# Altium integrated library Kondensator_DIP.IntLib: 1521 symbols (part 5 of 5)
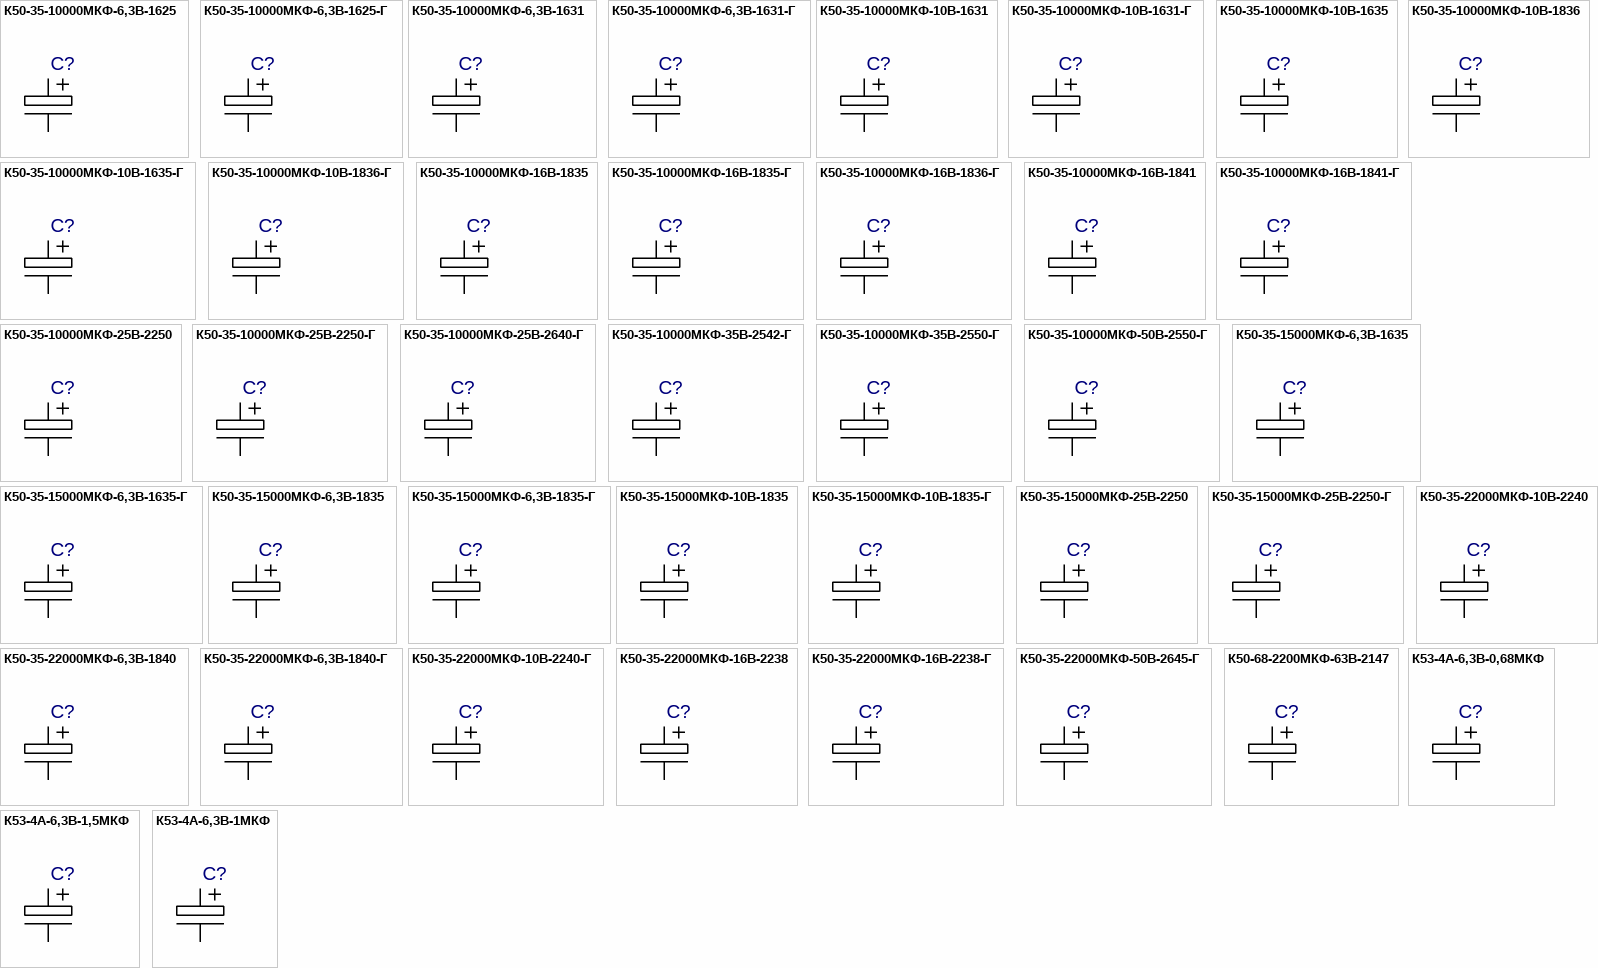
[diagram p42: symbols К50-35-10000МКФ-6,3В-1625 to К53-4А-6,3В-1МКФ]

## К50-35-10000МКФ-25В-2640-Г
designator C?  (value not drawn)
Value: *
footprint К50-35-26XX-Г_K5035-1R
footprint К50-35-26XX-Г_K5035-1R1
footprint К50-35-26XX-Г_Primary
pins: 1, 2

## К50-35-10000МКФ-35В-2542-Г
designator C?  (value not drawn)
Value: *
footprint К50-35-25XX-Г_K5035-1R
footprint К50-35-25XX-Г_K5035-1R1
footprint К50-35-25XX-Г_Primary
pins: 1, 2

## К50-35-10000МКФ-35В-2550-Г
designator C?  (value not drawn)
Value: *
footprint К50-35-25XX-Г_K5035-1R
footprint К50-35-25XX-Г_K5035-1R1
footprint К50-35-25XX-Г_Primary
pins: 1, 2

## К50-35-10000МКФ-50В-2550-Г
designator C?  (value not drawn)
Value: *
footprint К50-35-25XX-Г_K5035-1R
footprint К50-35-25XX-Г_K5035-1R1
footprint К50-35-25XX-Г_Primary
pins: 1, 2

## К50-35-15000МКФ-6,3В-1635
designator C?  (value not drawn)
Value: *
footprint К50-35-1625_K5035-1R
footprint К50-35-1625_K5035-1R1
footprint К50-35-1625_Primary
pins: 1, 2

## К50-35-15000МКФ-6,3В-1635-Г
designator C?  (value not drawn)
Value: *
footprint К50-35-16XX-Г_K5035-1R
footprint К50-35-16XX-Г_K5035-1R1
footprint К50-35-16XX-Г_Primary
pins: 1, 2

## К50-35-15000МКФ-6,3В-1835
designator C?  (value not drawn)
Value: *
footprint К50-35-1835_K5035-1R
footprint К50-35-1835_K5035-1R1
footprint К50-35-1835_Primary
pins: 1, 2

## К50-35-15000МКФ-6,3В-1835-Г
designator C?  (value not drawn)
Value: *
footprint К50-35-18XX-Г_K5035-1R
footprint К50-35-18XX-Г_K5035-1R1
footprint К50-35-18XX-Г_Primary
pins: 1, 2

## К50-35-15000МКФ-10В-1835
designator C?  (value not drawn)
Value: *
footprint К50-35-1835_K5035-1R
footprint К50-35-1835_K5035-1R1
footprint К50-35-1835_Primary
pins: 1, 2

## К50-35-15000МКФ-10В-1835-Г
designator C?  (value not drawn)
Value: *
footprint К50-35-18XX-Г_K5035-1R
footprint К50-35-18XX-Г_K5035-1R1
footprint К50-35-18XX-Г_Primary
pins: 1, 2

## К50-35-15000МКФ-25В-2250
designator C?  (value not drawn)
Value: *
footprint К50-35-2240_K5035-1R
footprint К50-35-2240_K5035-1R1
footprint К50-35-2240_Primary
pins: 1, 2

## К50-35-15000МКФ-25В-2250-Г
designator C?  (value not drawn)
Value: *
footprint К50-35-22XX-Г_K5035-1R
footprint К50-35-22XX-Г_K5035-1R1
footprint К50-35-22XX-Г_Primary
pins: 1, 2

## К50-35-22000МКФ-6,3В-1840
designator C?  (value not drawn)
Value: *
footprint К50-35-1835_K5035-1R
footprint К50-35-1835_K5035-1R1
footprint К50-35-1835_Primary
pins: 1, 2

## К50-35-22000МКФ-6,3В-1840-Г
designator C?  (value not drawn)
Value: *
footprint К50-35-18XX-Г_K5035-1R
footprint К50-35-18XX-Г_K5035-1R1
footprint К50-35-18XX-Г_Primary
pins: 1, 2

## К50-35-22000МКФ-10В-2240
designator C?  (value not drawn)
Value: *
footprint К50-35-2240_K5035-1R
footprint К50-35-2240_K5035-1R1
footprint К50-35-2240_Primary
pins: 1, 2

## К50-35-22000МКФ-10В-2240-Г
designator C?  (value not drawn)
Value: *
footprint К50-35-22XX-Г_K5035-1R
footprint К50-35-22XX-Г_K5035-1R1
footprint К50-35-22XX-Г_Primary
pins: 1, 2

## К50-35-22000МКФ-16В-2238
designator C?  (value not drawn)
Value: *
footprint К50-35-2240_K5035-1R
footprint К50-35-2240_K5035-1R1
footprint К50-35-2240_Primary
pins: 1, 2

## К50-35-22000МКФ-16В-2238-Г
designator C?  (value not drawn)
Value: *
footprint К50-35-22XX-Г_K5035-1R
footprint К50-35-22XX-Г_K5035-1R1
footprint К50-35-22XX-Г_Primary
pins: 1, 2

## К50-35-22000МКФ-50В-2645-Г
designator C?  (value not drawn)
Value: *
footprint К50-35-26XX-Г_K5035-1R
footprint К50-35-26XX-Г_K5035-1R1
footprint К50-35-26XX-Г_Primary
pins: 1, 2

## К50-68-2200МКФ-63В-2147
designator C?  (value not drawn)
Value: *
footprint К50-35-2240_K5035-1R
footprint К50-35-2240_K5035-1R1
footprint К50-35-2240_Primary
pins: 1, 2

## К53-4А-6,3В-0,68МКФ
designator C?  (value not drawn)
Value: *
footprint 3,2X7,5X0,6
pins: 1, 2

## К53-4А-6,3В-1,5МКФ
designator C?  (value not drawn)
Value: *
footprint 3,2X7,5X0,6
pins: 1, 2

## К53-4А-6,3В-1МКФ
designator C?  (value not drawn)
Value: *
footprint 3,2X7,5X0,6
pins: 1, 2

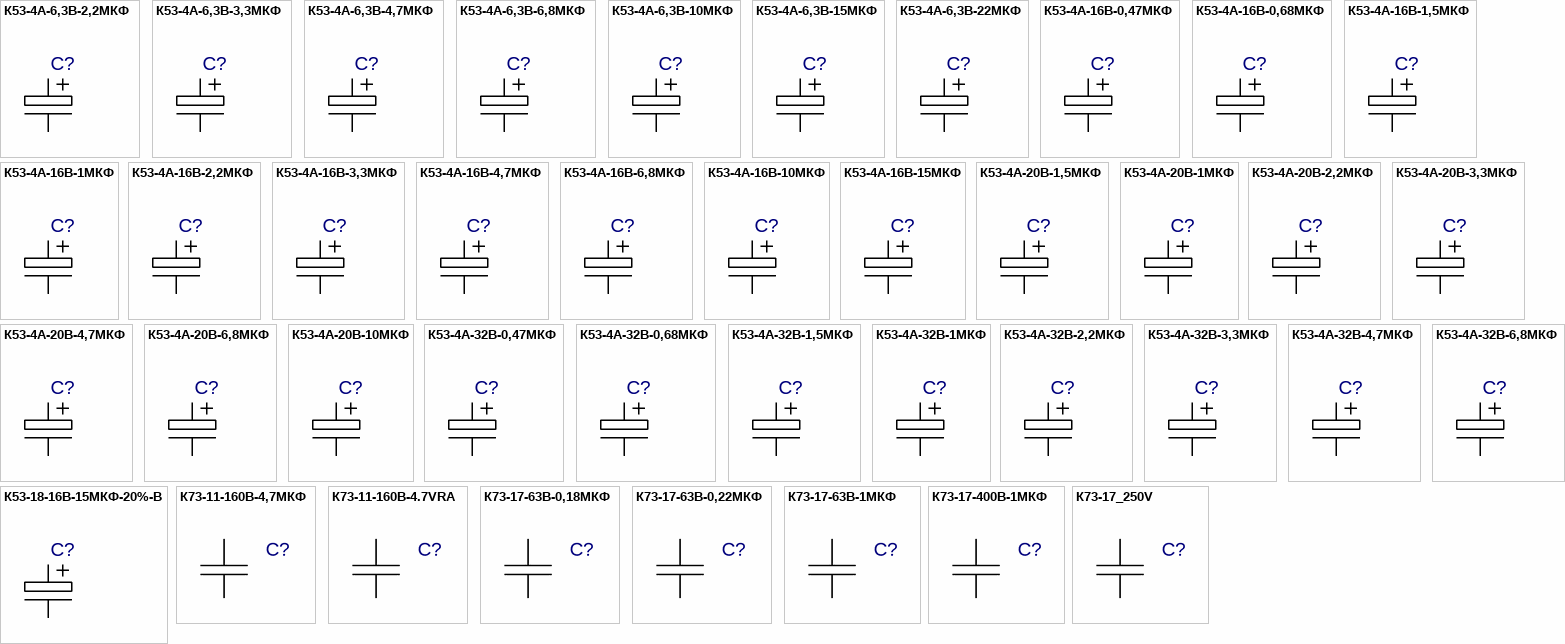
[diagram p37: symbols К53-4А-6,3В-2,2МКФ to К73-17_250V]

## К53-4А-6,3В-2,2МКФ
designator C?  (value not drawn)
Value: *
footprint 3,2X7,5X0,6
pins: 1, 2

## К53-4А-6,3В-3,3МКФ
designator C?  (value not drawn)
Value: *
footprint 3,2X7,5X0,6
pins: 1, 2

## К53-4А-6,3В-4,7МКФ
designator C?  (value not drawn)
Value: *
footprint 3,2X7,5X0,6
pins: 1, 2

## К53-4А-6,3В-6,8МКФ
designator C?  (value not drawn)
Value: *
footprint 4,0X10,0X1,0
pins: 1, 2

## К53-4А-6,3В-10МКФ
designator C?  (value not drawn)
Value: *
footprint 4,0X10,0X1,0
pins: 1, 2

## К53-4А-6,3В-15МКФ
designator C?  (value not drawn)
Value: *
footprint 4,0X13,0X1,3
pins: 1, 2

## К53-4А-6,3В-22МКФ
designator C?  (value not drawn)
Value: *
footprint 4,0X13,0X1,3
pins: 1, 2

## К53-4А-16В-0,47МКФ
designator C?  (value not drawn)
Value: *
footprint 3,2X7,5X0,6
pins: 1, 2

## К53-4А-16В-0,68МКФ
designator C?  (value not drawn)
Value: *
footprint 3,2X7,5X0,6
pins: 1, 2

## К53-4А-16В-1,5МКФ
designator C?  (value not drawn)
Value: *
footprint 3,2X7,5X0,6
pins: 1, 2

## К53-4А-16В-1МКФ
designator C?  (value not drawn)
Value: *
footprint 3,2X7,5X0,6
pins: 1, 2

## К53-4А-16В-2,2МКФ
designator C?  (value not drawn)
Value: *
footprint 3,2X7,5X0,6
pins: 1, 2

## К53-4А-16В-3,3МКФ
designator C?  (value not drawn)
Value: *
footprint 3,2X7,5X0,6
pins: 1, 2

## К53-4А-16В-4,7МКФ
designator C?  (value not drawn)
Value: *
footprint 4,0X10,0X1,0
pins: 1, 2

## К53-4А-16В-6,8МКФ
designator C?  (value not drawn)
Value: *
footprint 4,0X10,0X1,0
pins: 1, 2

## К53-4А-16В-10МКФ
designator C?  (value not drawn)
Value: *
footprint 4,0X13,0X1,3
pins: 1, 2

## К53-4А-16В-15МКФ
designator C?  (value not drawn)
Value: *
footprint 4,0X13,0X1,3
pins: 1, 2

## К53-4А-20В-1,5МКФ
designator C?  (value not drawn)
Value: *
footprint 3,2X7,5X0,6
pins: 1, 2

## К53-4А-20В-1МКФ
designator C?  (value not drawn)
Value: *
footprint 3,2X7,5X0,6
pins: 1, 2

## К53-4А-20В-2,2МКФ
designator C?  (value not drawn)
Value: *
footprint 3,2X7,5X0,6
pins: 1, 2

## К53-4А-20В-3,3МКФ
designator C?  (value not drawn)
Value: *
footprint 4,0X10,0X1,0
pins: 1, 2

## К53-4А-20В-4,7МКФ
designator C?  (value not drawn)
Value: *
footprint 4,0X10,0X1,0
pins: 1, 2

## К53-4А-20В-6,8МКФ
designator C?  (value not drawn)
Value: *
footprint 4,0X13,0X1,3
pins: 1, 2

## К53-4А-20В-10МКФ
designator C?  (value not drawn)
Value: *
footprint 4,0X13,0X1,3
pins: 1, 2

## К53-4А-32В-0,47МКФ
designator C?  (value not drawn)
Value: *
footprint 3,2X7,5X0,6
pins: 1, 2

## К53-4А-32В-0,68МКФ
designator C?  (value not drawn)
Value: *
footprint 3,2X7,5X0,6
pins: 1, 2

## К53-4А-32В-1,5МКФ
designator C?  (value not drawn)
Value: *
footprint 4,0X10,0X1,0
pins: 1, 2

## К53-4А-32В-1МКФ
designator C?  (value not drawn)
Value: *
footprint 3,2X7,5X0,6
pins: 1, 2

## К53-4А-32В-2,2МКФ
designator C?  (value not drawn)
Value: *
footprint 4,0X10,0X1,0
pins: 1, 2

## К53-4А-32В-3,3МКФ
designator C?  (value not drawn)
Value: *
footprint 4,0X13,0X1,3
pins: 1, 2

## К53-4А-32В-4,7МКФ
designator C?  (value not drawn)
Value: *
footprint 4,0X13,0X1,3
pins: 1, 2

## К53-4А-32В-6,8МКФ
designator C?  (value not drawn)
Value: *
footprint 4,0X13,0X1,3
pins: 1, 2

## К53-18-16В-15МКФ-20%-В
designator C?  (value not drawn)
Value: *
footprint К53-18 (4 X 10)
pins: 1 2, 2 1

## К73-11-160В-4,7МКФ
designator C?  (value not drawn)
Value: *
footprint K73-11-160В-4,7МКФ
pins: 1, 2

## К73-11-160В-4.7VRA
designator C?  (value not drawn)
Value: *
footprint K73-11-160В-4,7МКФ
pins: 1, 2

## К73-17-63В-0,18МКФ
designator C?  (value not drawn)
Value: *
footprint К73-17-12X6
pins: 1, 2

## К73-17-63В-0,22МКФ
designator C?  (value not drawn)
Value: *
footprint К73-17-12X6
pins: 1, 2

## К73-17-63В-1МКФ
designator C?  (value not drawn)
Value: *
footprint К73-17-18X8
pins: 1, 2

## К73-17-400В-1МКФ
designator C?  (value not drawn)
Value: *
footprint K73-17-400В-1МКФ
pins: 1, 2

## К73-17_250V
designator C?  (value not drawn)
Value: *
footprint К73-17_250V
pins: 1, 2

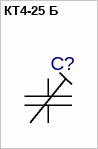
[diagram p38: symbol КТ4-25 Б]

## КТ4-25 Б
designator C?  (value not drawn)
Value: *
footprint KT4-25 Б
pins: 1, 2